# EAGLE library part PCA9515A (library CM_IC)
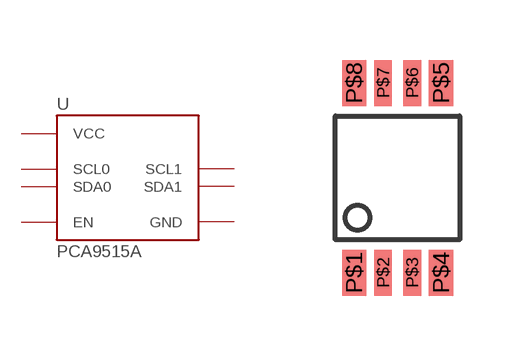
[diagram p2: symbol with the pads of TSSOP8; footprint TSSOP8]

Designator prefix U

## PCA9515A  [TSSOP8]
P$2  SCL0
P$3  SDA0
P$4  GND
P$5  EN
P$6  SDA1
P$7  SCL1
P$8  VCC

## Footprint TSSOP8 (pad centres in mm)
smd 0.6 x 1.15: P$1 -1.087,-2.375; P$4 1.087,-2.375; P$5 1.087,2.375; P$8 -1.087,2.375
smd 0.45 x 1.15: P$2 -0.362,-2.375; P$3 0.362,-2.375; P$6 0.362,2.375; P$7 -0.362,2.375